# Altium integrated library reguladores tension.IntLib: 6 symbols
Pins are listed as number, name and electrical type; pins without a type are passive.

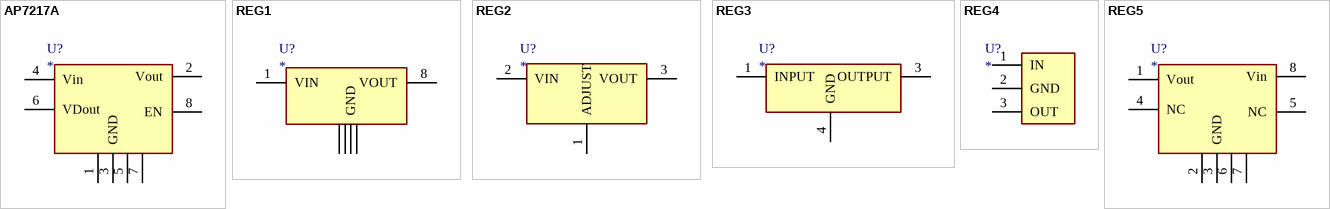
[diagram p0: symbols AP7217A to REG5]

## AP7217A
designator U?
footprint SOIC-8
pins: 1 GND, 2 Vout, 3 GND, 4 Vin, 5 GND, 6 VDout, 7 GND, 8 EN

## REG1
designator U?
datasheet L78L12ACD13TR: https://www.mouser.es/datasheet/2/389/cd00000446-1795493.pdf
footprint SOIC-8
pins: 1 VIN, 3 GND, 3 2, 6 GND, 7 GND, 8 VOUT

## REG2
designator U?
pins: 1 ADJUST, 2 VIN, 3 VOUT

## REG3
designator U?
footprint TO-252-3
pins: 1 INPUT, 3 OUTPUT, 4 GND

## REG4
designator U?
footprint TO-220-3
pins: 1 IN (power), 2 GND (power), 3 OUT (power)

## REG5
designator U?
footprint SOIC-8
pins: 1 Vout, 2 GND, 3 GND, 4 NC, 5 NC, 6 GND, 7 GND, 8 Vin